# EAGLE library part 18F14K50 (library rebut)
PIC 18F14K50
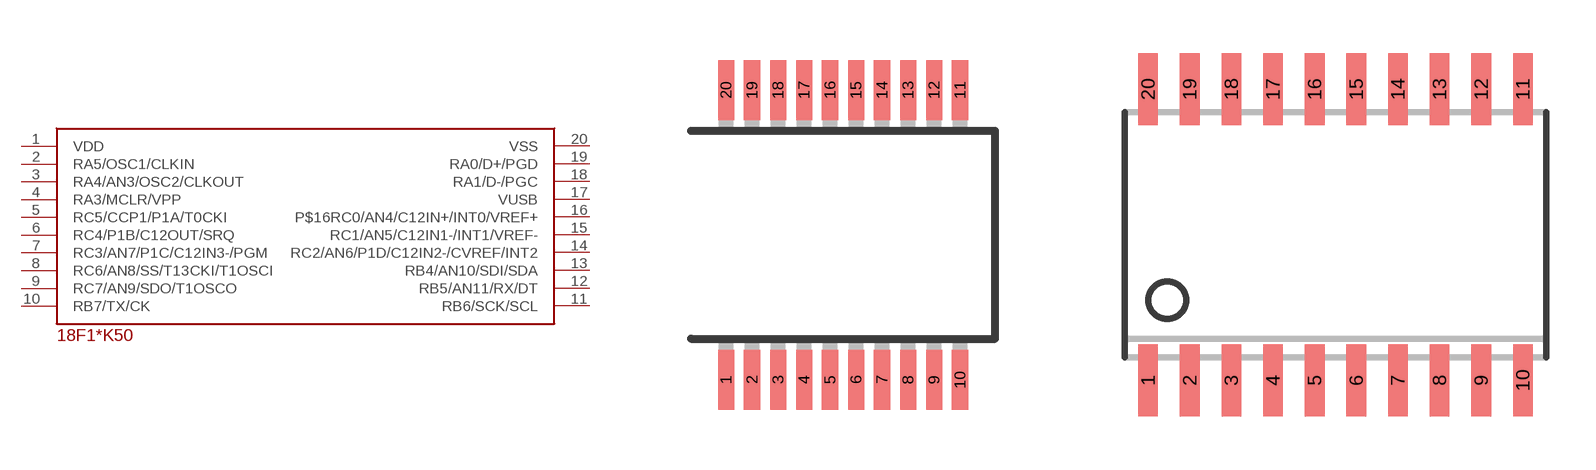
[diagram p0: symbol with the pads of SSOP20; footprints SSOP20, SOIC20]

Designator prefix -

## 18F14K50-SS  [SSOP20]
1  VDD  pwr
2  RA5/OSC1/CLKIN
3  RA4/AN3/OSC2/CLKOUT
4  RA3/MCLR/VPP
5  RC5/CCP1/P1A/T0CKI
6  RC4/P1B/C12OUT/SRQ
7  RC3/AN7/P1C/C12IN3-/PGM
8  RC6/AN8/SS/T13CKI/T1OSCI
9  RC7/AN9/SDO/T1OSCO
10  RB7/TX/CK
11  RB6/SCK/SCL
12  RB5/AN11/RX/DT
13  RB4/AN10/SDI/SDA
14  RC2/AN6/P1D/C12IN2-/CVREF/INT2
15  RC1/AN5/C12IN1-/INT1/VREF-
16  P$16RC0/AN4/C12IN+/INT0/VREF+
17  VUSB
18  RA1/D-/PGC
19  RA0/D+/PGD
20  VSS  pwr

## 18F14K50-SO  [SOIC20]
Pads as for SSOP20

## Footprint SSOP20 (pad centres in mm)
Shrink Small Outline Package package type SS
smd 0.4 x 1.5: 1 -2.925,-3.625; 2 -2.275,-3.625; 3 -1.625,-3.625; 4 -0.975,-3.625; 5 -0.325,-3.625; 6 0.325,-3.625; 7 0.975,-3.625; 8 1.625,-3.625; 9 2.275,-3.625; 10 2.925,-3.625; 11 2.925,3.625; 12 2.275,3.625; 13 1.625,3.625; 14 0.975,3.625; 15 0.325,3.625; 16 -0.325,3.625; 17 -0.975,3.625; 18 -1.625,3.625; 19 -2.275,3.625; 20 -2.925,3.625

## Footprint SOIC20 (pad centres in mm)
smd 0.6 x 2.2: 1 -5.715,-4.445; 2 -4.445,-4.445; 3 -3.175,-4.445; 4 -1.905,-4.445; 5 -0.635,-4.445; 6 0.635,-4.445; 7 1.905,-4.445; 8 3.175,-4.445; 9 4.445,-4.445; 10 5.715,-4.445; 11 5.715,4.445; 12 4.445,4.445; 13 3.175,4.445; 14 1.905,4.445; 15 0.635,4.445; 16 -0.635,4.445; 17 -1.905,4.445; 18 -3.175,4.445; 19 -4.445,4.445; 20 -5.715,4.445